# Altium footprint library Thyristor.PcbLib: 2 footprints
Each footprint in its own frame and in the unit in brackets; x right, y up, seen from the top. Pads: shape width x height; smd on the part's side, far side on the other; paste and mask are expansions set on the pad; w line width, h text height; cw(c..) or ccw(c..) is an arc to the next point about the centre after c.
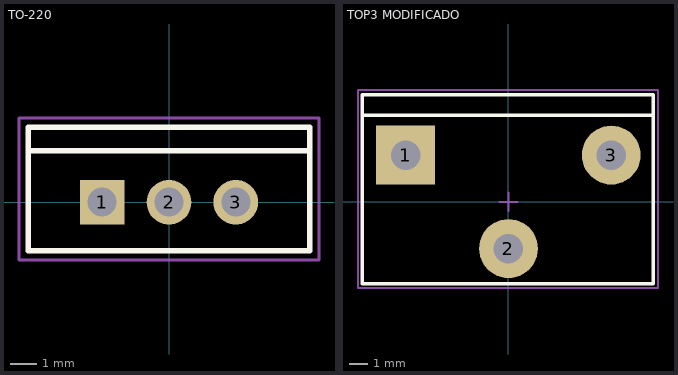
[diagram p0: the footprints below, top view; thin cyan lines are the x and y axes]

## TO-220 [mm] "TO, Thru-Hole, Vertical, Heatsink Mounted; 3 In-Line Leads; Pitch 2.54 mm"
height 22.9
pads (3):
  rect 1.7x1.7 hole 1.1: 1(-2.54,0)
  round 1.7 hole 1.1: 2(0,0) 3(2.54,0)
Top Overlay:
  lines w0.2: -5.35,1.95 5.35,1.95 ; -5.35,-1.85 -5.35,2.85 5.35,2.85 5.35,-1.85 -5.35,-1.85
Mechanical 15:
  lines w0.1: -0.5,0 0.5,0 ; 0,-0.5 0,0.5 ; -5.7,-2.2 -5.7,3.2 5.7,3.2 5.7,-2.2 -5.7,-2.2
3D body: height 18.69, standoff -4.8, extent -4.95,-1.558 4.95,2.9

## TOP3 MODIFICADO [mm]
pads (3):
  rect 3.2x3.2 hole 1.6: 1(-5.588,2.54)
  round 3.2 hole 1.6: 2(0,-2.54) 3(5.588,2.54)
Top Overlay:
  lines w0.2: -7.95,4.699 7.874,4.699 ; -7.95,-4.445 7.874,-4.445 7.874,5.817 -7.95,5.817 -7.95,-4.445
Mechanical 15:
  lines w0.1: -0.5,0 0.5,0 ; 0,-0.5 0,0.5 ; -8.179,-4.674 8.128,-4.674 8.128,6.071 -8.179,6.071 -8.179,-4.674
3D body: height 29.9, standoff -6, extent -7.801,-2.819 7.699,5.661